# Altium schematic symbol library MM5829-2700RJ4.SchLib: 1 symbol
Pins are listed as number, name and electrical type; pins without a type are passive.

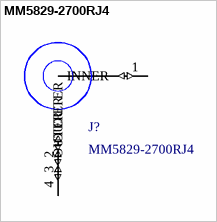
[diagram p0: symbol MM5829-2700RJ4]

## MM5829-2700RJ4
designator J?
JSC Connector Receptacle, Female Socket 50Ohm Surface Mount Solder; MF: Murata; Digi-Key_Part_Number: 490-5894-1-ND; Digi-Key_Purchase_URL: https://www.digikey.com/product-detail/en/murata-electronics/MM5829-2700RJ4/490-5894-1-ND/3528184?utm_source=snapeda&utm_medium=aggregator&utm_campaign=symbol; SnapEDA_Link: https://www.snapeda.com/parts/MM5829-2700RJ4/Murata%20Electronics%20North%20America/view-part/554555/?ref=snap; Package: None; MP: MM5829-2700RJ4; Value: *
footprint *MURATA_MM5829-2700RJ4
pins: 1 INNER (io), 2 OUTER (io), 3 OUTER (io), 4 OUTER (io)